# Altium schematic symbol library ESP32-WROOM-32E_M113EH3200PH3Q.SchLib: 1 symbol
Pins are listed as number, name and electrical type; pins without a type are passive.

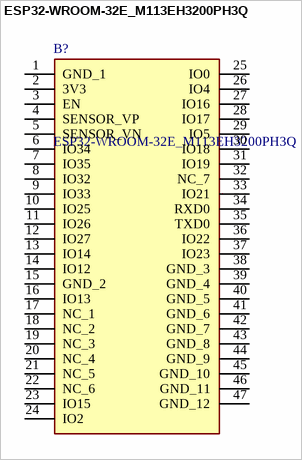
[diagram p0: symbol ESP32-WROOM-32E_M113EH3200PH3Q]

## ESP32-WROOM-32E_M113EH3200PH3Q
designator B?
WiFi Modules (802.11) SMD Module ESP32-D0WD-V3, 4 MB SPI flash, PCB antenna; Manufacturer_Name: Espressif Systems; Manufacturer_Part_Number: ESP32-WROOM-32E(M113EH3200PH3Q0); Geometry.Height: 3.25mm; IC Components Part Number: *; IC Components Price/Stock: *; Datasheet Link: *
footprint ESP32WROOM32EM113EH3200PH3Q0
pins: 1 GND_1, 2 3V3, 3 EN, 4 SENSOR_VP, 5 SENSOR_VN, 6 IO34, 7 IO35, 8 IO32, 9 IO33, 10 IO25, 11 IO26, 12 IO27, 13 IO14, 14 IO12, 15 GND_2, 16 IO13, 17 NC_1, 18 NC_2, 19 NC_3, 20 NC_4, 21 NC_5, 22 NC_6, 23 IO15, 24 IO2, 25 IO0, 26 IO4, 27 IO16, 28 IO17, 29 IO5, 30 IO18, 31 IO19, 32 NC_7, 33 IO21, 34 RXD0, 35 TXD0, 36 IO22, 37 IO23, 38 GND_3, 39 GND_4, 40 GND_5, 41 GND_6, 42 GND_7, 43 GND_8, 44 GND_9, 45 GND_10, 46 GND_11, 47 GND_12